# Altium footprint library Picoblade_533984002.PcbLib: 1 footprints
Each footprint in its own frame and in the unit in brackets; x right, y up, seen from the top. Pads: shape width x height; smd on the part's side, far side on the other; paste and mask are expansions set on the pad; w line width, h text height; cw(c..) or ccw(c..) is an arc to the next point about the centre after c.
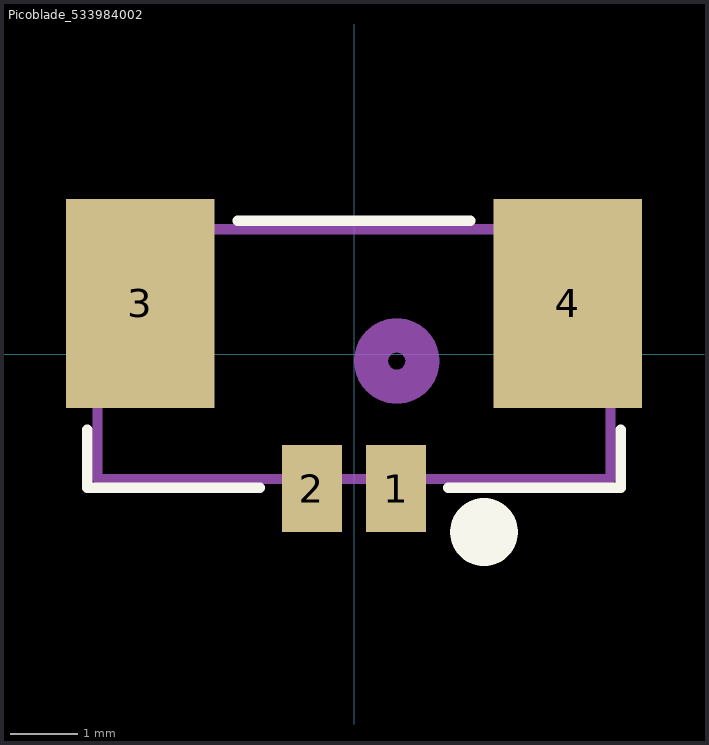
[diagram p0: the footprint, top view; thin cyan lines are the x and y axes]

## Picoblade_533984002 [mil]
pads (4):
  rect 35x51 smd: 1(24.61,-78.57) 2(-24.61,-78.57)
  rect 87x122 smd: 3(-125,29.69) 4(125,29.69)
Top Overlay:
  lines w6: -156,-44 -156,-78 -55,-78 ; -68,78 68,78 ; 55,-78 156,-78 156,-44
  lines w20: 66.16,-104 ccw(c76,-104) 85.84,-104 ccw(c76,-104) 66.16,-104
Bottom Overlay:
  lines w20: 66.16,-104 cw(c76,-104) 85.84,-104 cw(c76,-104) 66.16,-104
Assembly Top:
  lines w6: -150,-73 -150,73 150,73 150,-73 -150,-73
  lines w20: 10,-4 cw(c25,-4) 40,-4 cw(c25,-4) 10,-4
3D body "533984002.stp": height 185.04, standoff 0, extent -150.59,-85.35 150.59,80